# Altium footprint library IC_Maxim_Electronics_MAX98357AETE+T_eec_0.PcbLib: 1 footprints
Each footprint in its own frame and in the unit in brackets; x right, y up, seen from the top. Pads: shape width x height; smd on the part's side, far side on the other; paste and mask are expansions set on the pad; w line width, h text height; cw(c..) or ccw(c..) is an arc to the next point about the centre after c.
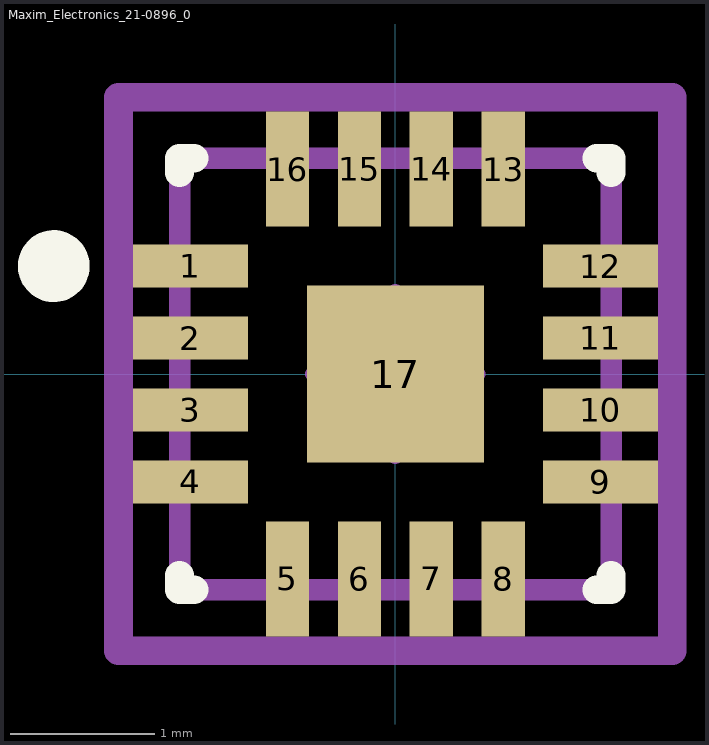
[diagram p0: the footprint, top view; thin cyan lines are the x and y axes]

## Maxim_Electronics_21-0896_0 [mm]
pads (17):
  rect 0.8x0.3 smd paste+0 mask+0: 1(-1.425,0.75) 2(-1.425,0.25) 3(-1.425,-0.25) 4(-1.425,-0.75) 9(1.425,-0.75) 10(1.425,-0.25) 11(1.425,0.25) 12(1.425,0.75)
  rect 0.3x0.8 smd paste+0 mask+0: 5(-0.75,-1.425) 6(-0.25,-1.425) 7(0.25,-1.425) 8(0.75,-1.425) 13(0.75,1.425) 14(0.25,1.425) 15(-0.25,1.425) 16(-0.75,1.425)
  rect 1.23x1.23 smd paste+0 mask+0: 17(0,0)
Top Overlay:
  circle w0.25: c-2.375,0.75 r0.125
  lines w0.2: -1.5,-1.4 -1.5,-1.5 -1.4,-1.5 ; -1.5,1.4 -1.5,1.5 -1.4,1.5 ; 1.4,-1.5 1.5,-1.5 1.5,-1.4 ; 1.4,1.5 1.5,1.5 1.5,1.4
Mechanical 10:
  lines w0.2: -1.925,-1.925 -1.925,1.925 1.925,1.925 1.925,-1.925 -1.925,-1.925
  text ".Designator" at 0,0 h1
Mechanical 12:
  lines w0.15: -1.5,-1.5 -1.5,1.5 1.5,1.5 1.5,-1.5 -1.5,-1.5
Mechanical 15:
  lines w0.1: -0.577,0 0.577,0 ; -0.5,0 0.5,0 ; 0,-0.577 0,0.577 ; 0,-0.5 0,0.5
  lines w0.2: -1.925,-1.925 -1.925,1.925 1.925,1.925 1.925,-1.925 -1.925,-1.925
3D body "3dmodel.step": height 0.8, standoff 0.05, extent -1.5,-1.5 1.5,1.5